# EAGLE library part HEADER-1X8 (library anykey)
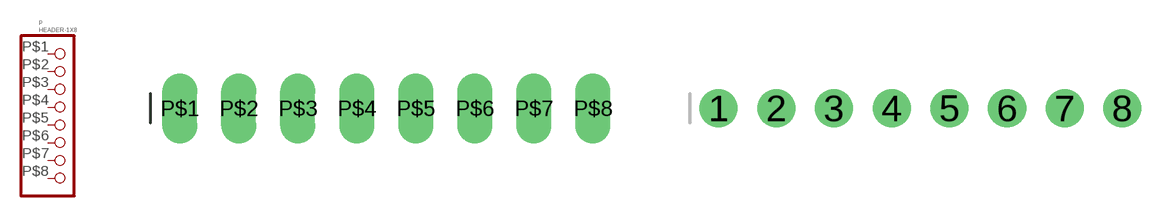
[diagram p8: symbol with the pads of 1X08_OVAL; footprints 1X08_OVAL, 1X08_ROUND]

Designator prefix P

## HEADER-1X8OVAL  [1X08_OVAL]
P$1  1  pas
P$2  2  pas
P$3  3  pas
P$4  4  pas
P$5  5  pas
P$6  6  pas
P$7  7  pas
P$8  8  pas

## HEADER-1X8ROUND  [1X08_ROUND]
1  1  pas
2  2  pas
3  3  pas
4  4  pas
5  5  pas
6  6  pas
7  7  pas
8  8  pas

## Footprint 1X08_OVAL (pad centres in mm)
drill 1 long: P$1 -8.89,0; P$2 -6.35,0; P$3 -3.81,0; P$4 -1.27,0; P$5 1.27,0; P$6 3.81,0; P$7 6.35,0; P$8 8.89,0

## Footprint 1X08_ROUND (pad centres in mm)
drill 1 pad 1.676: 1 -8.89,0; 2 -6.35,0; 3 -3.81,0; 4 -1.27,0; 5 1.27,0; 6 3.81,0; 7 6.35,0; 8 8.89,0